# Altium footprint library 434133025816.PcbLib: 1 footprints
Each footprint in its own frame and in the unit in brackets; x right, y up, seen from the top. Pads: shape width x height; smd on the part's side, far side on the other; paste and mask are expansions set on the pad; w line width, h text height; cw(c..) or ccw(c..) is an arc to the next point about the centre after c.
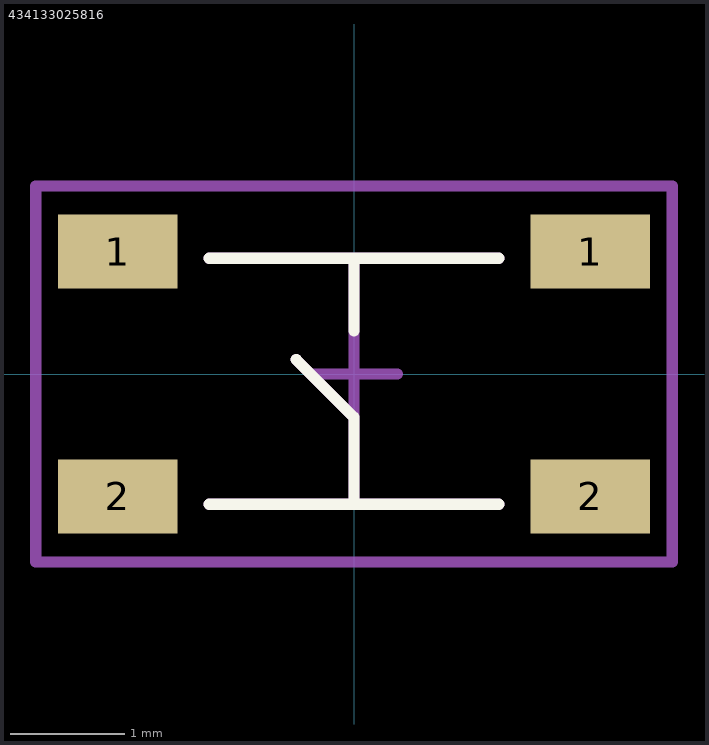
[diagram p0: the footprint, top view; thin cyan lines are the x and y axes]

## 434133025816 [mm]
pads (4):
  rect 1.05x0.65 smd: 1(-2.075,1.075) 1(2.075,1.075) 2(-2.075,-1.075) 2(2.075,-1.075)
Top Overlay:
  lines w0.1: -1.27,-1.143 1.27,-1.143 ; -1.27,1.016 1.27,1.016 ; -0.508,0.127 0,-0.381 0,-1.143 ; 0,0.381 0,1.016
Mechanical 1:
  lines w0.1: -1.27,-1.143 1.27,-1.143 ; -1.27,1.016 1.27,1.016 ; -0.508,0.127 0,-0.381 0,-1.143 ; 0,0.381 0,1.016 ; -2.794,-1.651 -2.794,1.651 2.794,1.651 2.794,-1.651 -2.794,-1.651
  text ".Designator" at 0.252,-0.293 h0.65
Mechanical 2:
  lines w0.05: -2.794,-1.651 2.794,-1.651 2.794,1.651 -2.794,1.651 -2.794,-1.651
  lines w0.1: -0.381,0 0,0 ; 0,-0.381 0,0 ; 0,0.381 0,0 ; 0.381,0 0,0
3D body "434133025816.step": height 2.7, standoff 0, extent -2.604,-1.6 2.604,1.6